# Altium footprint library Con IDC.PcbLib: 105 footprints (part 4 of 7)
Each footprint in its own frame and in the unit in brackets; x right, y up, seen from the top. Pads: shape width x height; smd on the part's side, far side on the other; paste and mask are expansions set on the pad; w line width, h text height; cw(c..) or ccw(c..) is an arc to the next point about the centre after c.
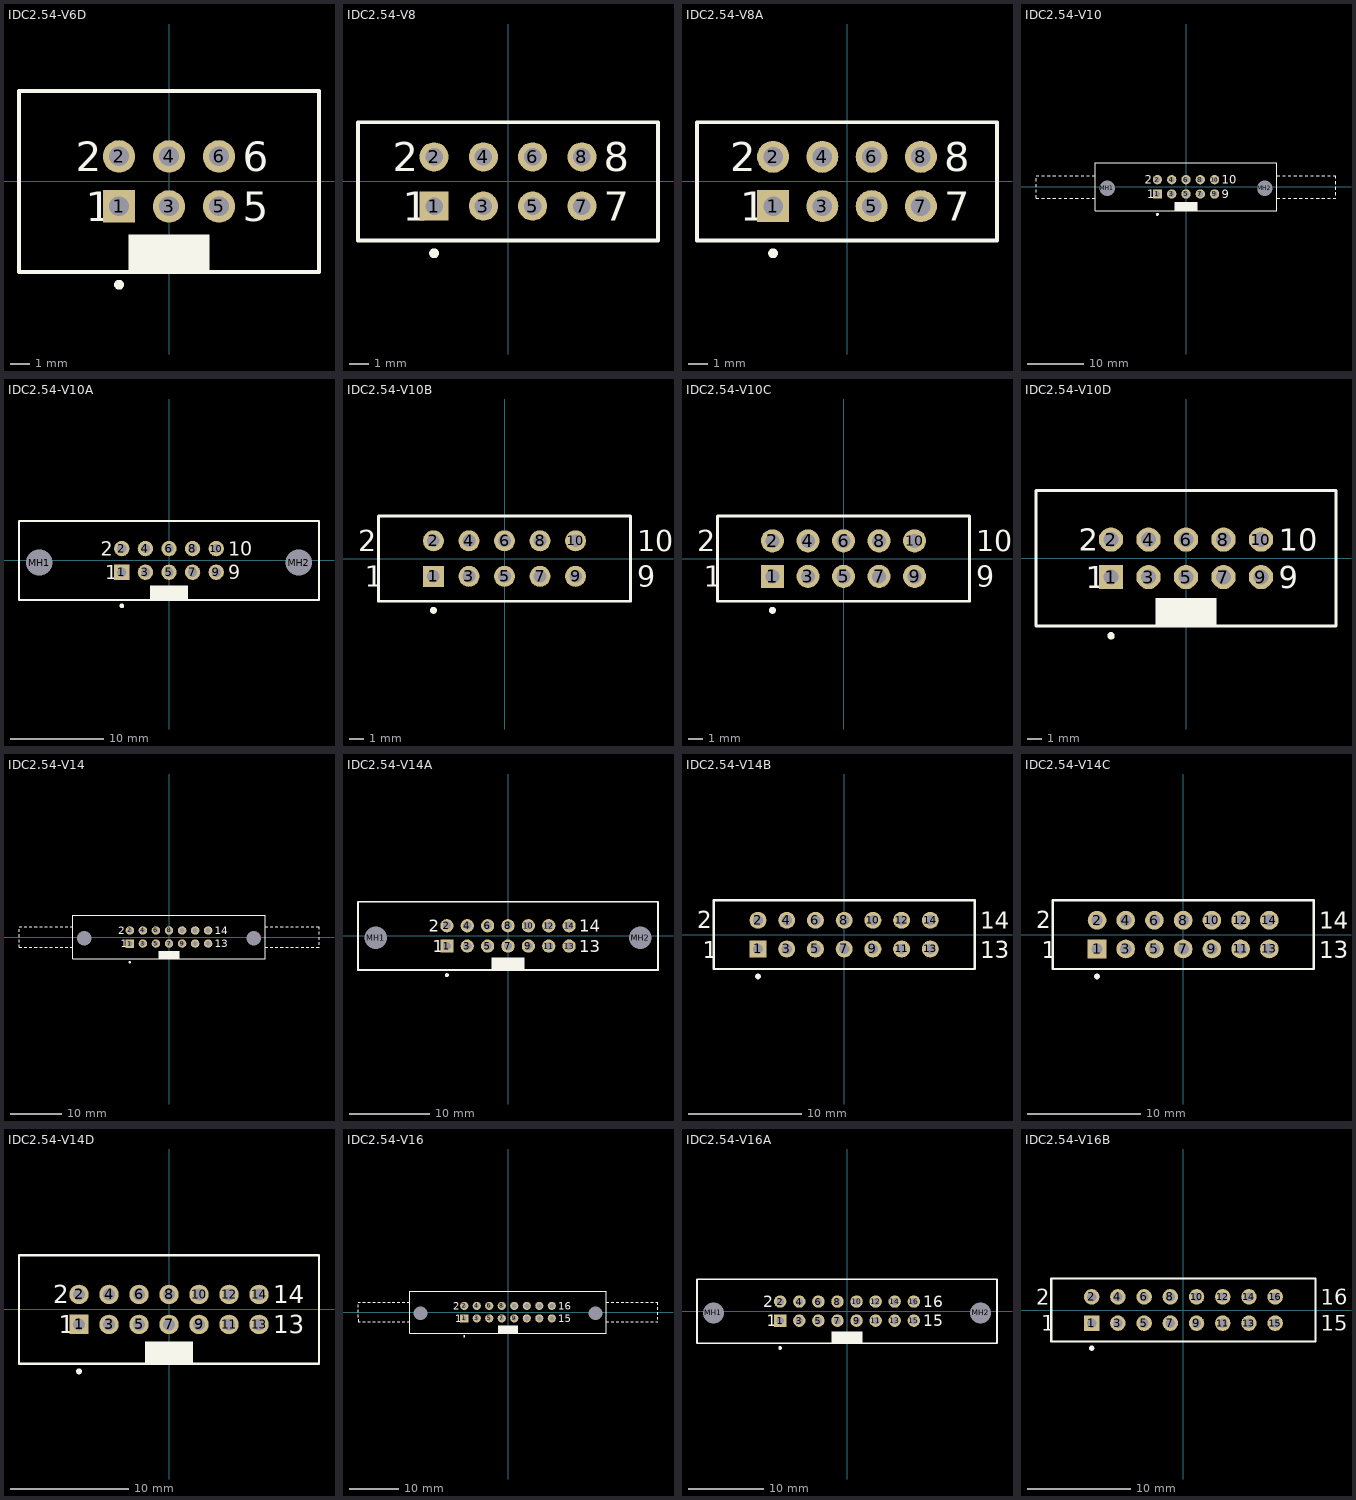
[diagram p3: the footprints below, top view; thin cyan lines are the x and y axes]

## IDC2.54-V6D [mm] "Connector; IDC, Low Profile Male Header, Thru-Hole; 6 Position; Vertical; Pitch 2.54 mm; Body 15.24 x 9.2 x 9.45 mm (LxWxH)"
height 9.45
pads (6):
  rect 1.65x1.65 hole 1: 1(-2.54,-1.27)
  round 1.65 hole 1: 2(-2.54,1.27) 3(0,-1.27) 4(0,1.27) 5(2.54,-1.27) 6(2.54,1.27)
Top Overlay:
  circle w0.25: c-2.54,-5.25 r0.125
  rectangle: -2.05,-4.6 2.05,-2.7
  lines w0.2: -7.62,-4.6 7.62,-4.6 7.62,4.6 -7.62,4.6 -7.62,-4.6
  text "5" at 3.74,-2.02 h1.5
  text "6" at 3.74,0.52 h1.5
  text "1" at -4.24,-2.02 h1.5
  text "2" at -4.74,0.52 h1.5

## IDC2.54-V8 [mm] "Connector; IDC, PCB Transition - 2 Rows, Thru-Hole; 8 Position; Vertical; Pitch 2.54 mm; Body 15.46 x 6.1 x 7.45 mm (LxWxH)"
height 7.45
pads (8):
  rect 1.5x1.5 hole 0.9: 1(-3.81,-1.27)
  round 1.5 hole 0.9: 2(-3.81,1.27) 3(-1.27,-1.27) 4(-1.27,1.27) 5(1.27,-1.27) 6(1.27,1.27) 7(3.81,-1.27) 8(3.81,1.27)
Top Overlay:
  circle w0.25: c-3.81,-3.7 r0.125
  lines w0.2: -7.73,-3.05 7.73,-3.05 7.73,3.05 -7.73,3.05 -7.73,-3.05
  text "7" at 4.935,-2.02 h1.5
  text "8" at 4.935,0.52 h1.5
  text "1" at -5.435,-2.02 h1.5
  text "2" at -5.935,0.52 h1.5

## IDC2.54-V8A [mm] "Connector; IDC, PCB Transition - 2 Rows, Thru-Hole; 8 Position; Vertical; Pitch 2.54 mm; Body 15.46 x 6.1 x 7.45 mm (LxWxH), Kinked Contacts"
height 7.45
pads (8):
  rect 1.65x1.65 hole 1: 1(-3.81,-1.27)
  round 1.65 hole 1: 2(-3.81,1.27) 3(-1.27,-1.27) 4(-1.27,1.27) 5(1.27,-1.27) 6(1.27,1.27) 7(3.81,-1.27) 8(3.81,1.27)
Top Overlay:
  circle w0.25: c-3.81,-3.7 r0.125
  lines w0.2: -7.73,-3.05 -7.73,3.05 7.73,3.05 7.73,-3.05 -7.73,-3.05
  text "2" at -6.01,0.52 h1.5
  text "1" at -5.51,-2.02 h1.5
  text "8" at 5.01,0.52 h1.5
  text "7" at 5.01,-2.02 h1.5

## IDC2.54-V10 [mm] "Connector; IDC, Thru-Hole; 10 Position; Vertical; Pitch 2.54 mm; Body 32.30 x 8.5 x 25.75 mm (LxWxH), Locking levers"
height 25.75
pads (12):
  rect 1.65x1.65 hole 1: 1(-5.08,-1.27)
  round 1.65 hole 1: 2(-5.08,1.27) 3(-2.54,-1.27) 4(-2.54,1.27) 5(0,-1.27) 6(0,1.27) 7(2.54,-1.27) 8(2.54,1.27) 9(5.08,-1.27) 10(5.08,1.27)
  round 2.5 hole 2.8 unplated: MH1(-13.97,-0.25) MH2(13.97,-0.25)
Top Overlay:
  circle w0.25: c-5.08,-4.9 r0.125
  rectangle: -2.05,-4.25 2.05,-2.7
  lines w0.2: -26.65,-1.5 -26.65,-2 -26.15,-2 ; -26.65,-1 -26.65,-0.5 ; -26.65,0 -26.65,0.5 ; -26.65,1 -26.65,1.5 ; -26.65,2 -26.15,2 ; -25.65,-2 -25.15,-2 ; -25.65,2 -25.15,2 ; -24.65,-2 -24.15,-2 ; -24.65,2 -24.15,2 ; -23.65,-2 -23.15,-2 ; -23.65,2 -23.15,2 ; -22.65,-2 -22.15,-2 ; -22.65,2 -22.15,2 ; -21.65,-2 -21.15,-2 ; -21.65,2 -21.15,2 ; -20.65,-2 -20.15,-2 ; -20.65,2 -20.15,2 ; -19.65,-2 -19.15,-2 ; -19.65,2 -19.15,2 ; -18.65,-2 -18.15,-2 ; -18.65,2 -18.15,2 ; -17.65,-2 -17.15,-2 ; -17.65,2 -17.15,2 ; -16.65,-2 -16.15,-2 ; -16.65,2 -16.15,2 ; 16.15,-2 16.65,-2 ; 16.15,2 16.65,2 ; 17.15,-2 17.65,-2 ; 17.15,2 17.65,2 ; 18.15,-2 18.65,-2 ; 18.15,2 18.65,2 ; 19.15,-2 19.65,-2 ; 19.15,2 19.65,2 ; 20.15,-2 20.65,-2 ; 20.15,2 20.65,2 ; 21.15,-2 21.65,-2 ; 21.15,2 21.65,2 ; 22.15,-2 22.65,-2 ; 22.15,2 22.65,2 ; 23.15,-2 23.65,-2 ; 23.15,2 23.65,2 ; 24.15,-2 24.65,-2 ; 24.15,2 24.65,2 ; 25.15,-2 25.65,-2 ; 25.15,2 25.65,2 ; 26.15,-2 26.65,-2 ; 26.15,2 26.65,2 26.65,1.5 ; 26.65,-1.5 26.65,-1 ; 26.65,-0.5 26.65,0 ; 26.65,0.5 26.65,1 ; -16.15,-4.25 16.15,-4.25 16.15,4.25 -16.15,4.25 -16.15,-4.25
  text "9" at 6.36,-2.02 h1.5
  text "10" at 6.36,0.52 h1.5
  text "1" at -6.86,-2.02 h1.5
  text "2" at -7.36,0.52 h1.5

## IDC2.54-V10A [mm] "Connector; IDC, Thru-Hole; 10 Position; Vertical; Pitch 2.54 mm; Body 32.30 x 8.5 x 17.30 mm (LxWxH), Without locking levers"
height 17.3
pads (12):
  rect 1.65x1.65 hole 1: 1(-5.08,-1.27)
  round 1.65 hole 1: 2(-5.08,1.27) 3(-2.54,-1.27) 4(-2.54,1.27) 5(0,-1.27) 6(0,1.27) 7(2.54,-1.27) 8(2.54,1.27) 9(5.08,-1.27) 10(5.08,1.27)
  round 2.5 hole 2.8 unplated: MH1(-13.97,-0.25) MH2(13.97,-0.25)
Top Overlay:
  circle w0.25: c-5.08,-4.9 r0.125
  rectangle: -2.05,-4.25 2.05,-2.7
  lines w0.2: -16.15,-4.25 -16.15,4.25 16.15,4.25 16.15,-4.25 -16.15,-4.25
  text "2" at -7.36,0.52 h1.5
  text "1" at -6.86,-2.02 h1.5
  text "10" at 6.36,0.52 h1.5
  text "9" at 6.36,-2.02 h1.5

## IDC2.54-V10B [mm] "Connector; IDC, PCB Transition - 2 Rows, Thru-Hole; 10 Position; Vertical; Pitch 2.54 mm; Body 18.00 x 6.1 x 7.45 mm (LxWxH)"
height 7.45
pads (10):
  rect 1.5x1.5 hole 0.9: 1(-5.08,-1.27)
  round 1.5 hole 0.9: 2(-5.08,1.27) 3(-2.54,-1.27) 4(-2.54,1.27) 5(0,-1.27) 6(0,1.27) 7(2.54,-1.27) 8(2.54,1.27) 9(5.08,-1.27) 10(5.08,1.27)
Top Overlay:
  circle w0.25: c-5.08,-3.7 r0.125
  lines w0.2: -9,-3.05 9,-3.05 9,3.05 -9,3.05 -9,-3.05
  text "9" at 9.475,-2.02 h1.5
  text "10" at 9.475,0.52 h1.5
  text "1" at -9.975,-2.02 h1.5
  text "2" at -10.475,0.52 h1.5

## IDC2.54-V10C [mm] "Connector; IDC, PCB Transition - 2 Rows, Thru-Hole; 10 Position; Vertical; Pitch 2.54 mm; Body 18.00 x 6.1 x 7.45 mm (LxWxH), Kinked Contacts"
height 7.45
pads (10):
  rect 1.65x1.65 hole 1: 1(-5.08,-1.27)
  round 1.65 hole 1: 2(-5.08,1.27) 3(-2.54,-1.27) 4(-2.54,1.27) 5(0,-1.27) 6(0,1.27) 7(2.54,-1.27) 8(2.54,1.27) 9(5.08,-1.27) 10(5.08,1.27)
Top Overlay:
  circle w0.25: c-5.08,-3.7 r0.125
  lines w0.2: -9,-3.05 9,-3.05 9,3.05 -9,3.05 -9,-3.05
  text "9" at 9.475,-2.02 h1.5
  text "10" at 9.475,0.52 h1.5
  text "1" at -9.975,-2.02 h1.5
  text "2" at -10.475,0.52 h1.5

## IDC2.54-V10D [mm] "Connector; IDC, Low Profile Male Header, Thru-Hole; 10 Position; Vertical; Pitch 2.54 mm; Body 20.32 x 9.2 x 9.45 mm (LxWxH)"
height 9.45
pads (10):
  rect 1.65x1.65 hole 1: 1(-5.08,-1.27)
  round 1.65 hole 1: 2(-5.08,1.27) 3(-2.54,-1.27) 4(-2.54,1.27) 5(0,-1.27) 6(0,1.27) 7(2.54,-1.27) 8(2.54,1.27) 9(5.08,-1.27) 10(5.08,1.27)
Top Overlay:
  circle w0.25: c-5.08,-5.25 r0.125
  rectangle: -2.05,-4.6 2.05,-2.7
  lines w0.2: -10.16,-4.6 10.16,-4.6 10.16,4.6 -10.16,4.6 -10.16,-4.6
  text "9" at 6.28,-2.02 h1.5
  text "10" at 6.28,0.52 h1.5
  text "1" at -6.78,-2.02 h1.5
  text "2" at -7.28,0.52 h1.5

## IDC2.54-V14 [mm] "Connector; IDC, Thru-Hole; 14 Position; Vertical; Pitch 2.54 mm; Body 37.40 x 8.5 x 25.75 mm (LxWxH), Locking levers"
height 25.75
pads (16):
  rect 1.65x1.65 hole 1: 1(-7.62,-1.27)
  round 1.65 hole 1: 2(-7.62,1.27) 3(-5.08,-1.27) 4(-5.08,1.27) 5(-2.54,-1.27) 6(-2.54,1.27) 7(0,-1.27) 8(0,1.27) 9(2.54,-1.27) 10(2.54,1.27) 11(5.08,-1.27) 12(5.08,1.27) 13(7.62,-1.27) 14(7.62,1.27)
  round 2.5 hole 2.8 unplated: MH1(-16.51,-0.25) MH2(16.51,-0.25)
Top Overlay:
  circle w0.25: c-7.62,-4.9 r0.125
  rectangle: -2.05,-4.25 2.05,-2.7
  lines w0.2: -29.2,-1 -29.2,-0.5 ; -29.2,0 -29.2,0.5 ; -29.2,1 -29.2,1.5 ; -29.2,2 -28.69,2 ; -29.19,-1.5 -29.2,-2 -28.69,-2 ; -28.19,-2 -27.69,-2 ; -28.19,2 -27.69,2 ; -27.19,-2 -26.69,-2 ; -27.19,2 -26.69,2 ; -26.19,-2 -25.69,-2 ; -26.19,2 -25.69,2 ; -25.19,-2 -24.69,-2 ; -25.19,2 -24.69,2 ; -24.19,-2 -23.69,-2 ; -24.19,2 -23.69,2 ; -23.19,-2 -22.69,-2 ; -23.19,2 -22.69,2 ; -22.19,-2 -21.69,-2 ; -22.19,2 -21.69,2 ; -21.19,-2 -20.69,-2 ; -21.19,2 -20.69,2 ; -20.19,-2 -19.69,-2 ; -20.19,2 -19.69,2 ; -19.19,-2 -18.7,-2 ; -19.19,2 -18.7,2 ; 18.7,-2 19.2,-2 ; 18.7,2 19.2,2 ; 19.7,-2 20.2,-2 ; 19.7,2 20.2,2 ; 20.7,-2 21.2,-2 ; 20.7,2 21.2,2 ; 21.7,-2 22.2,-2 ; 21.7,2 22.2,2 ; 22.7,-2 23.2,-2 ; 22.7,2 23.2,2 ; 23.7,-2 24.2,-2 ; 23.7,2 24.2,2 ; 24.7,-2 25.2,-2 ; 24.7,2 25.2,2 ; 25.7,-2 26.2,-2 ; 25.7,2 26.2,2 ; 26.7,-2 27.2,-2 ; 26.7,2 27.2,2 ; 27.7,-2 28.2,-2 ; 27.7,2 28.2,2 ; 28.7,-2 29.2,-2 ; 28.7,2 29.2,2 29.2,1.5 ; 29.2,-1.5 29.2,-1 ; 29.2,-0.5 29.2,0 ; 29.2,0.5 29.2,1 ; -18.7,-4.25 18.7,-4.25 18.7,4.25 -18.7,4.25 -18.7,-4.25
  text "13" at 8.9,-2.02 h1.5
  text "14" at 8.9,0.52 h1.5
  text "1" at -9.4,-2.02 h1.5
  text "2" at -9.9,0.52 h1.5

## IDC2.54-V14A [mm] "Connector; IDC, Thru-Hole; 14 Position; Vertical; Pitch 2.54 mm; Body 37.40 x 8.5 x 17.30 mm (LxWxH), Without locking levers"
height 17.3
pads (16):
  rect 1.65x1.65 hole 1: 1(-7.62,-1.27)
  round 1.65 hole 1: 2(-7.62,1.27) 3(-5.08,-1.27) 4(-5.08,1.27) 5(-2.54,-1.27) 6(-2.54,1.27) 7(0,-1.27) 8(0,1.27) 9(2.54,-1.27) 10(2.54,1.27) 11(5.08,-1.27) 12(5.08,1.27) 13(7.62,-1.27) 14(7.62,1.27)
  round 2.5 hole 2.8 unplated: MH1(-16.51,-0.25) MH2(16.51,-0.25)
Top Overlay:
  circle w0.25: c-7.62,-4.9 r0.125
  rectangle: -2.05,-4.25 2.05,-2.7
  lines w0.2: -18.7,-4.25 18.7,-4.25 18.7,4.25 -18.7,4.25 -18.7,-4.25
  text "13" at 8.9,-2.02 h1.5
  text "14" at 8.9,0.52 h1.5
  text "1" at -9.4,-2.02 h1.5
  text "2" at -9.9,0.52 h1.5

## IDC2.54-V14B [mm] "Connector; IDC, PCB Transition - 2 Rows, Thru-Hole; 14 Position; Vertical; Pitch 2.54 mm; Body 23.08 x 6.1 x 7.45 mm (LxWxH)"
height 7.45
pads (14):
  rect 1.5x1.5 hole 0.9: 1(-7.62,-1.27)
  round 1.5 hole 0.9: 2(-7.62,1.27) 3(-5.08,-1.27) 4(-5.08,1.27) 5(-2.54,-1.27) 6(-2.54,1.27) 7(0,-1.27) 8(0,1.27) 9(2.54,-1.27) 10(2.54,1.27) 11(5.08,-1.27) 12(5.08,1.27) 13(7.62,-1.27) 14(7.62,1.27)
Top Overlay:
  circle w0.25: c-7.62,-3.7 r0.125
  lines w0.2: -11.54,-3.05 -11.54,3.05 11.54,3.05 11.54,-3.05 -11.54,-3.05
  text "2" at -13.015,0.57 h1.5
  text "1" at -12.515,-2.07 h1.5
  text "14" at 12.015,0.53 h1.5
  text "13" at 12.015,-2.1 h1.5

## IDC2.54-V14C [mm] "Connector; IDC, PCB Transition - 2 Rows, Thru-Hole; 14 Position; Vertical; Pitch 2.54 mm; Body 23.08 x 6.1 x 7.45 mm (LxWxH), Kinked Contacts"
height 7.45
pads (14):
  rect 1.65x1.65 hole 1: 1(-7.62,-1.27)
  round 1.65 hole 1: 2(-7.62,1.27) 3(-5.08,-1.27) 4(-5.08,1.27) 5(-2.54,-1.27) 6(-2.54,1.27) 7(0,-1.27) 8(0,1.27) 9(2.54,-1.27) 10(2.54,1.27) 11(5.08,-1.27) 12(5.08,1.27) 13(7.62,-1.27) 14(7.62,1.27)
Top Overlay:
  circle w0.25: c-7.62,-3.7 r0.125
  lines w0.2: -11.54,-3.05 -11.54,3.05 11.54,3.05 11.54,-3.05 -11.54,-3.05
  text "2" at -13.015,0.57 h1.5
  text "1" at -12.515,-2.07 h1.5
  text "14" at 12.015,0.52 h1.5
  text "13" at 12.015,-2.1 h1.5

## IDC2.54-V14D [mm] "Connector; IDC, Low Profile Male Header, Thru-Hole; 14 Position; Vertical; Pitch 2.54 mm; Body 25.40 x 9.2 x 9.45 mm (LxWxH)"
height 9.45
pads (14):
  rect 1.65x1.65 hole 1: 1(-7.62,-1.27)
  round 1.65 hole 1: 2(-7.62,1.27) 3(-5.08,-1.27) 4(-5.08,1.27) 5(-2.54,-1.27) 6(-2.54,1.27) 7(0,-1.27) 8(0,1.27) 9(2.54,-1.27) 10(2.54,1.27) 11(5.08,-1.27) 12(5.08,1.27) 13(7.62,-1.27) 14(7.62,1.27)
Top Overlay:
  circle w0.25: c-7.62,-5.25 r0.125
  rectangle: -2.05,-4.6 2.05,-2.7
  lines w0.2: -12.7,-4.6 12.7,-4.6 12.7,4.6 -12.7,4.6 -12.7,-4.6
  text "13" at 8.82,-2.02 h1.5
  text "14" at 8.82,0.52 h1.5
  text "1" at -9.32,-2.02 h1.5
  text "2" at -9.82,0.52 h1.5

## IDC2.54-V16 [mm] "Connector; IDC, Thru-Hole; 16 Position; Vertical; Pitch 2.54 mm; Body 39.90 x 8.5 x 25.75 mm (LxWxH), Locking levers"
height 25.75
pads (18):
  rect 1.65x1.65 hole 1: 1(-8.89,-1.27)
  round 1.65 hole 1: 2(-8.89,1.27) 3(-6.35,-1.27) 4(-6.35,1.27) 5(-3.81,-1.27) 6(-3.81,1.27) 7(-1.27,-1.27) 8(-1.27,1.27) 9(1.27,-1.27) 10(1.27,1.27) 11(3.81,-1.27) 12(3.81,1.27) 13(6.35,-1.27) 14(6.35,1.27) 15(8.89,-1.27) 16(8.89,1.27)
  round 2.5 hole 2.8 unplated: MH1(-17.78,-0.25) MH2(17.78,-0.25)
Top Overlay:
  circle w0.25: c-8.89,-4.9 r0.125
  rectangle: -2.05,-4.25 2.05,-2.7
  lines w0.2: -30.46,-1.5 -30.45,-2 -29.96,-2 ; -30.45,-1 -30.45,-0.5 ; -30.45,0 -30.45,0.5 ; -30.45,1 -30.45,1.5 ; -30.45,2 -29.96,2 ; -29.46,-2 -28.96,-2 ; -29.46,2 -28.96,2 ; -28.46,-2 -27.96,-2 ; -28.46,2 -27.96,2 ; -27.46,-2 -26.96,-2 ; -27.46,2 -26.96,2 ; -26.46,-2 -25.96,-2 ; -26.46,2 -25.96,2 ; -25.46,-2 -24.96,-2 ; -25.46,2 -24.96,2 ; -24.46,-2 -23.96,-2 ; -24.46,2 -23.96,2 ; -23.46,-2 -22.96,-2 ; -23.46,2 -22.96,2 ; -22.46,-2 -21.96,-2 ; -22.46,2 -21.96,2 ; -21.46,-2 -20.96,-2 ; -21.46,2 -20.96,2 ; -20.46,-2 -19.95,-2 ; -20.46,2 -19.95,2 ; 19.95,-2 20.45,-2 ; 19.95,2 20.45,2 ; 20.95,-2 21.45,-2 ; 20.95,2 21.45,2 ; 21.95,-2 22.45,-2 ; 21.95,2 22.45,2 ; 22.95,-2 23.45,-2 ; 22.95,2 23.45,2 ; 23.95,-2 24.45,-2 ; 23.95,2 24.45,2 ; 24.95,-2 25.45,-2 ; 24.95,2 25.45,2 ; 25.95,-2 26.45,-2 ; 25.95,2 26.45,2 ; 26.95,-2 27.45,-2 ; 26.95,2 27.45,2 ; 27.95,-2 28.45,-2 ; 27.95,2 28.45,2 ; 28.95,-2 29.45,-2 ; 28.95,2 29.45,2 ; 29.95,-2 30.45,-2 ; 29.95,2 30.45,2 30.45,1.5 ; 30.45,-1.5 30.45,-1 ; 30.45,-0.5 30.45,0 ; 30.45,0.5 30.45,1 ; -19.95,-4.25 -19.95,4.25 19.95,4.25 19.95,-4.25 -19.95,-4.25
  text "2" at -11.17,0.52 h1.5
  text "1" at -10.67,-2.02 h1.5
  text "16" at 10.17,0.52 h1.5
  text "15" at 10.17,-2.02 h1.5

## IDC2.54-V16A [mm] "Connector; IDC, Thru-Hole; 16 Position; Vertical; Pitch 2.54 mm; Body 39.90 x 8.5 x 17.30 mm (LxWxH), Without locking levers"
height 17.3
pads (18):
  rect 1.65x1.65 hole 1: 1(-8.89,-1.27)
  round 1.65 hole 1: 2(-8.89,1.27) 3(-6.35,-1.27) 4(-6.35,1.27) 5(-3.81,-1.27) 6(-3.81,1.27) 7(-1.27,-1.27) 8(-1.27,1.27) 9(1.27,-1.27) 10(1.27,1.27) 11(3.81,-1.27) 12(3.81,1.27) 13(6.35,-1.27) 14(6.35,1.27) 15(8.89,-1.27) 16(8.89,1.27)
  round 2.5 hole 2.8 unplated: MH1(-17.78,-0.25) MH2(17.78,-0.25)
Top Overlay:
  circle w0.25: c-8.89,-4.9 r0.125
  rectangle: -2.05,-4.25 2.05,-2.7
  lines w0.2: -19.95,-4.25 19.95,-4.25 19.95,4.25 -19.95,4.25 -19.95,-4.25
  text "15" at 10.17,-2.02 h1.5
  text "16" at 10.17,0.52 h1.5
  text "1" at -10.67,-2.02 h1.5
  text "2" at -11.17,0.52 h1.5

## IDC2.54-V16B [mm] "Connector; IDC, PCB Transition - 2 Rows, Thru-Hole; 16 Position; Vertical; Pitch 2.54 mm; Body 25.62 x 6.1 x 7.45 mm (LxWxH)"
height 7.45
pads (16):
  rect 1.5x1.5 hole 0.9: 1(-8.89,-1.27)
  round 1.5 hole 0.9: 2(-8.89,1.27) 3(-6.35,-1.27) 4(-6.35,1.27) 5(-3.81,-1.27) 6(-3.81,1.27) 7(-1.27,-1.27) 8(-1.27,1.27) 9(1.27,-1.27) 10(1.27,1.27) 11(3.81,-1.27) 12(3.81,1.27) 13(6.35,-1.27) 14(6.35,1.27) 15(8.89,-1.27) 16(8.89,1.27)
Top Overlay:
  circle w0.25: c-8.89,-3.7 r0.125
  lines w0.2: -12.81,-3.05 12.81,-3.05 12.81,3.05 -12.81,3.05 -12.81,-3.05
  text "15" at 13.285,-2.02 h1.5
  text "16" at 13.285,0.52 h1.5
  text "1" at -13.785,-2.011 h1.5
  text "2" at -14.285,0.52 h1.5